# Altium schematic symbol library Connectors.SchLib: 81 symbols (part 1 of 2)
Pins are listed as number, name and electrical type; pins without a type are passive.

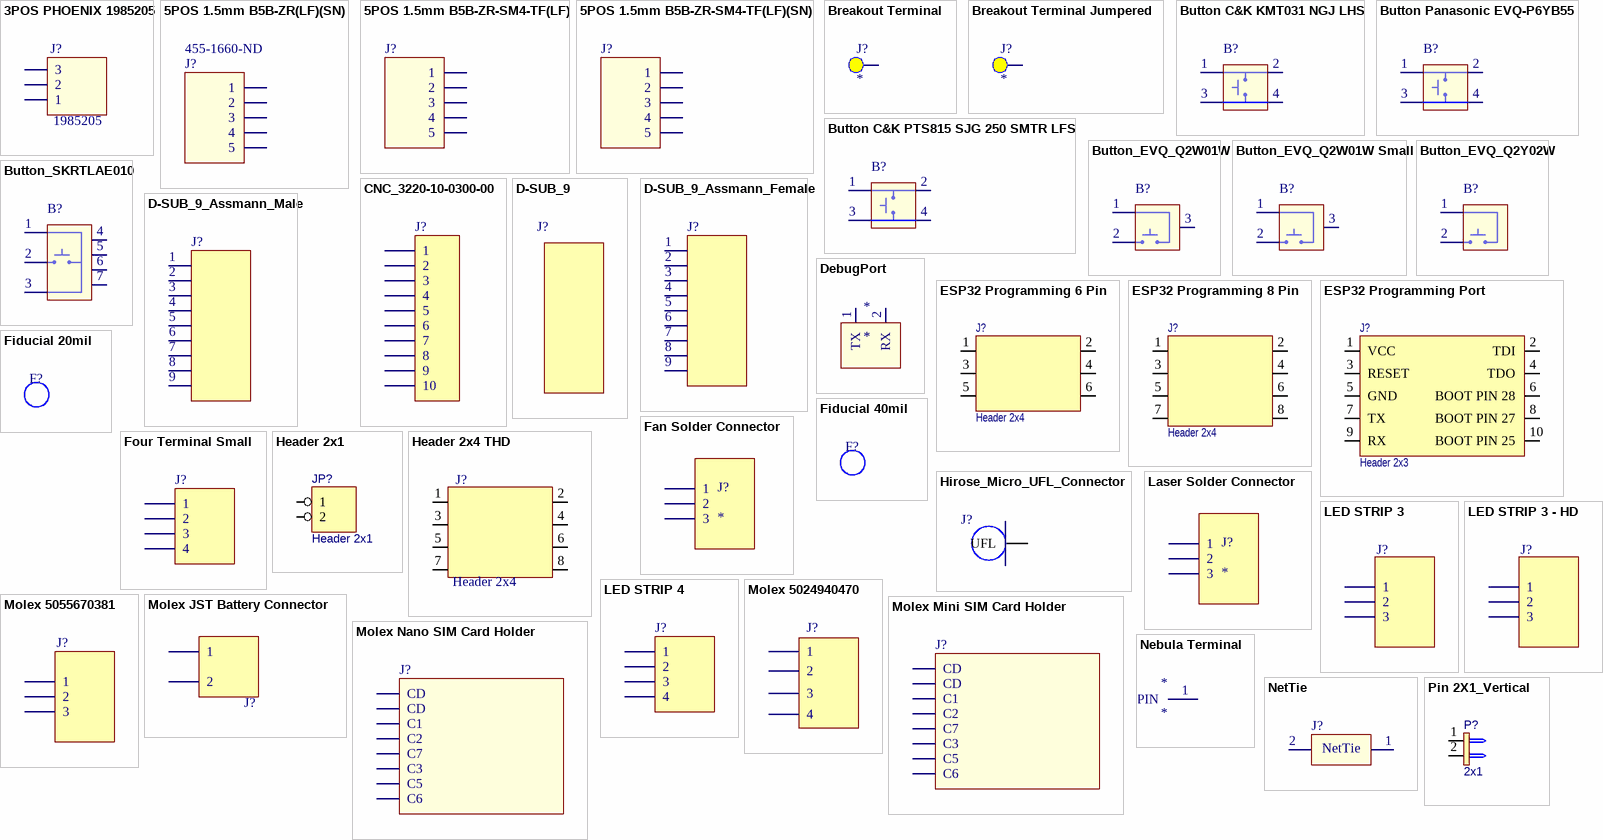
[diagram p0: symbols 3POS PHOENIX 1985205 to Pin 2X1_Vertical]

## 3POS PHOENIX 1985205
designator J?, comment 1985205
3POS,THD,TENSION CLAMP,PHOENIX CONTACT
pins: 1, 2, 3

## 5POS 1.5mm B5B-ZR(LF)(SN)
designator J?, comment Supplier Part Number 1: 455-1660-ND  (hidden comment: 5POS JST Connector)
Manufacturer Part Number: B5B-ZR(LF)(SN); No of Positions: 5; Pitch: 1.5 mm; Style/Orientation: Straight Header/Plug; Voltage Rating: 50 V; Current Rating: 1 A; No of Rows: 1; Gender: Male; Mating Type: Detent Lock; Insulation Resistance: 500 MΩ; Supplier 1: Digi-Key; Manufacturer: JST; Stock 1: 84969; Pricing 1: 1=0.26, 10=0.239, 100=0.1659, 500=0.1404, 1000=0.1149, 5000=0.1021, 10000=0.0925 (USD); Termination: Crimp; Operating Temp Range: -25 to +85 °C; Contact Material: Brass; Contact Plating: Tin; Material: Polyamide; Type: Shrouded Header; Color: Natural; ComponentLink1URL: http://www.jst-mfg.com/product/pdf/eng/eZH.pdf; ComponentLink1Description: http://www.jst-mfg.com/product/pdf/eng/eZH.pdf; ComponentLink2URL: https://www.verical.com/server-webapp/html/getDatasheet?partID=666189; ComponentLink2Description: https://www.verical.com/server-webapp/html/getDatasheet?partID=666189; ComponentLink3URL: http://uk.rs-online.com/webdocs/13ed/0900766b813ed0d3.pdf; ComponentLink3Description: http://uk.rs-online.com/webdocs/13ed/0900766b813ed0d3.pdf; ComponentLink4URL: http://uk.rs-online.com/webdocs/13f2/0900766b813f2e95.pdf; ComponentLink4Description: http://uk.rs-online.com/webdocs/13f2/0900766b813f2e95.pdf
pins: 1, 2, 3, 4, 5

## 5POS 1.5mm B5B-ZR-SM4-TF(LF)
designator J?, comment 5POS JST Connector  (value not drawn)
Surface Mount JST Connector
footprint B5B-ZR-SM4-TF(LF)
pins: 1, 2, 3, 4, 5

## 5POS 1.5mm B5B-ZR-SM4-TF(LF)(SN)
designator J?, comment 5POS JST Connector  (value not drawn)
Surface Mount JST Connector; Manufacturer Part Number: B5B-ZR-SM4TF(LF)(SN); Number of Contacts: 5; Pitch: 1.5mm; Body Orientation: Top Entry; Current Rating: 1A; Voltage Rating: 50 V ac/dc; Supplier 1: Digi-Key; Manufacturer: JST; Stock 1: 0; Number of Rows: 1; Type: Wire to Board; Termination Method: Solder; Series: ZH; Contact Material: Tin Plated Brass; ComponentLink1URL: http://uk.rs-online.com/webdocs/13ed/0900766b813ed0e4.pdf; ComponentLink1Description: http://uk.rs-online.com/webdocs/13ed/0900766b813ed0e4.pdf; Supplier Part Number 1: 455-1684-1-ND
footprint B5B-ZR-SM4-TF(LF)(SN)
pins: 1, 2, 3, 4, 5

## Breakout Terminal
designator J?
footprint Terminal
pins: 1

## Breakout Terminal Jumpered
designator J?
footprint Terminal
pins: 1

## Button C&K KMT031 NGJ LHS
designator B?  (value not drawn)
Tactile Push Button Top
pins: 1, 2, 3, 4

## Button C&K PTS815 SJG 250 SMTR LFS
designator B?  (value not drawn)
Push Button Top; Manufacturer: C&K Components; Manufacturer Part Number: PTS815 SJG 250 SMTR LFS; Supplier 1: Digi-Key; Stock 1: 0; ComponentLink1URL: http://datasheet.octopart.com/PTS815-SJG-250-SMTR-LFS-C%26K-Components-datasheet-130077068.pdf?src-supplier=Allied+Electronics; ComponentLink1Description: http://datasheet.octopart.com/PTS815-SJG-250-SMTR-LFS-C%26K-Components-datasheet-130077068.pdf?src-supplier=Allied+Electronics; Supplier Part Number 1: CKN12217-1-ND
footprint PTS 815 (Small Surface Mount Button)
pins: 1, 2, 3, 4

## Button Panasonic EVQ-P6YB55
designator B?  (value not drawn)
Tactile Push Button Top; Manufacturer: Panasonic; Manufacturer Part Number: EVQ-P6YB55; Maximum DC Voltage Rating: 15 V; Pole Throw Configuration: SPST; Switch Configuration: N.O.; Illumination Type: N/R; Ground Terminal: No; Electrical Life: 500000 Cycles; Body Orientation: Straight; Actuator Length: 0.15 mm; Maximum Contact Resistance: 500 mOhm; Operating Force: 2.4 N; Dielectric Strength: 250 VAC; Minimum Insulation Resistance: 50 MOhm; Contact Rating @ Voltage: 0.02@15VDC A; COO: MY; Supplier 1: Panasonic Industrial Devices; Stock 1: 38456; Pricing 1: 1=0.41, 10=0.394, 25=0.38, 50=0.366, 100=0.352, 250=0.3238, 500=0.2816, 1000=0.2394, 5000=0.2006 (USD); Part No: EVQ-P6YB55; RoHS: Yes; Supplier Standard Pack: 10,000; Type: Light Touch; Maximum AC Voltage Rating: N/A; Family: EVQP6; Contact Material: N/A; Actuator Color: N/A; Seal Description: N/A; Mechanical Life: N/A; Packaging: Embossed Tape; Contact Plating: N/A; Housing Material: N/A; Product Weight: N/A; Base Material: N/A; Mounting: Surface Mount,J-Bend; Seal Location: N/A; Actuator Style: Button; Operating Temperature: -20 to 70 C; Dimension: 4.1 x 4.3 x 0.58 mm; HTS: 8536509020; ECCN: EAR99; ComponentLink1URL: http://www.mouser.com/ds/2/315/ATK0000CE23-64167.pdf?src-supplier=Mouser; ComponentLink1Description: http://www.mouser.com/ds/2/315/ATK0000CE23-64167.pdf?src-supplier=Mouser; ComponentLink2URL: http://uk.rs-online.com/webdocs/10ad/0900766b810ad2e1.pdf?src-supplier=RSComponents; ComponentLink2Description: http://uk.rs-online.com/webdocs/10ad/0900766b810ad2e1.pdf?src-supplier=RSComponents; ComponentLink3URL: http://industrial.panasonic.com/www-data/pdf/ATK0000/ATK0000CE23.pdf?src-supplier=Future+Electronics; ComponentLink3Description: http://industrial.panasonic.com/www-data/pdf/ATK0000/ATK0000CE23.pdf?src-supplier=Future+Electronics; ComponentLink4URL: http://industrial.panasonic.com/cdbs/www-data/pdf/ATK0000/ATK0000CE23.pdf?src-supplier=Digi-Key; ComponentLink4Description: http://industrial.panasonic.com/cdbs/www-data/pdf/ATK0000/ATK0000CE23.pdf?src-supplier=Digi-Key; ComponentLink5URL: https://www3.panasonic.biz/ac/e_download/control/switch/light-touch/catalog/sw_lt_eng_4s.pdf?src-supplier=Digi-Key; ComponentLink5Description: https://www3.panasonic.biz/ac/e_download/control/switch/light-touch/catalog/sw_lt_eng_4s.pdf?src-supplier=Digi-Key; ComponentLink6URL: http://industrial.panasonic.com/www-data/pdf/ATK0000/ATK0000CE23.pdf?src-supplier=Avnet+Europe; ComponentLink6Description: http://industrial.panasonic.com/www-data/pdf/ATK0000/ATK0000CE23.pdf?src-supplier=Avnet+Europe; ComponentLink7URL: http://www.farnell.com/datasheets/1679727.pdf?src-supplier=Element14; ComponentLink7Description: http://www.farnell.com/datasheets/1679727.pdf?src-supplier=Element14; Supplier Part Number 1: P14169CT-ND
footprint EVQ-P6YB55 (Small Surface Mount Button)
pins: 1, 2, 3, 4

## Button_EVQ_Q2W01W
designator B?  (value not drawn)
Push Button Top; Manufacturer: Panasonic; Manufacturer Part Number: EVQ-Q2W01W; Actuator Color: White; Actuator Length: 0.2 mm; Body Orientation: Straight; Actuator Style: Round Button; Ground Terminal: Yes; Electrical Life: 200000 Cycles; Dielectric Strength: 250 VAC; Contact Rating @ Voltage: 0.02@15VDC A; Maximum DC Voltage Rating: 15 V; Pole Throw Configuration: SPST; Illumination Type: N/R; Maximum Contact Resistance: 100 mOhm; Operating Force: 2.6 N; Switch Configuration: N.O.; Supplier 1: Digi-Key; Stock 1: 18654; Pricing 1: 1=0.3, 10=0.286, 25=0.2752, 50=0.2652, 100=0.2549, 250=0.2345, 500=0.2039, 1000=0.1734 (USD); Contact Material: N/A; Base Material: N/A; Family: EVQQ2; Contact Plating: N/A; Housing Material: N/A; Dimension: 6 x 6.6 x 2 mm; Part No: EVQ-Q2W01W; RoHS: Yes; Maximum AC Voltage Rating: N/A; Seal Description: N/A; Mechanical Life: N/A; Packaging: Embossed Tape and Reel; Product Weight: N/A; Mounting: Surface Mount,J-Bend; Minimum Insulation Resistance: 100 MOhm; Operating Temperature: -40 to 85 C; Type: Light Touch; Seal Location: N/A; ComponentLink1URL: https://datasheet.ciiva.com/16695/atk0000ce28-16695900.pdf; ComponentLink1Description: https://datasheet.ciiva.com/16695/atk0000ce28-16695900.pdf; ComponentLink2URL: https://datasheet.ciiva.com/2899/atk0000ce28-2899501.pdf; ComponentLink2Description: https://datasheet.ciiva.com/2899/atk0000ce28-2899501.pdf; ComponentLink3URL: https://datasheet.ciiva.com/25603/0900766b810ad3e5-25603837.pdf; ComponentLink3Description: https://datasheet.ciiva.com/25603/0900766b810ad3e5-25603837.pdf; ComponentLink4URL: https://datasheet.ciiva.com/2899/atk0000ce28-2899502.pdf; ComponentLink4Description: https://datasheet.ciiva.com/2899/atk0000ce28-2899502.pdf; ComponentLink5URL: https://datasheet.ciiva.com/2899/atk0000ce28-2899503.pdf; ComponentLink5Description: https://datasheet.ciiva.com/2899/atk0000ce28-2899503.pdf; ComponentLink6URL: https://datasheet.ciiva.com/46401/578646-46401311.pdf; ComponentLink6Description: https://datasheet.ciiva.com/46401/578646-46401311.pdf; Supplier Part Number 1: P12956SCT-ND
footprint EVQ_Q2W01W (Panasonic Button)
pins: 1, 2, 3

## Button_EVQ_Q2W01W Small
designator B?  (value not drawn)
Push Button Top; Manufacturer: Panasonic; Manufacturer Part Number: EVQ-Q2W01W; Actuator Color: White; Actuator Length: 0.2 mm; Body Orientation: Straight; Actuator Style: Round Button; Ground Terminal: Yes; Electrical Life: 200000 Cycles; Dielectric Strength: 250 VAC; Contact Rating @ Voltage: 0.02@15VDC A; Maximum DC Voltage Rating: 15 V; Pole Throw Configuration: SPST; Illumination Type: N/R; Maximum Contact Resistance: 100 mOhm; Operating Force: 2.6 N; Switch Configuration: N.O.; Supplier 1: Digi-Key; Stock 1: 18654; Pricing 1: 1=0.3, 10=0.286, 25=0.2752, 50=0.2652, 100=0.2549, 250=0.2345, 500=0.2039, 1000=0.1734 (USD); Contact Material: N/A; Base Material: N/A; Family: EVQQ2; Contact Plating: N/A; Housing Material: N/A; Dimension: 6 x 6.6 x 2 mm; Part No: EVQ-Q2W01W; RoHS: Yes; Maximum AC Voltage Rating: N/A; Seal Description: N/A; Mechanical Life: N/A; Packaging: Embossed Tape and Reel; Product Weight: N/A; Mounting: Surface Mount,J-Bend; Minimum Insulation Resistance: 100 MOhm; Operating Temperature: -40 to 85 C; Type: Light Touch; Seal Location: N/A; ComponentLink1URL: https://datasheet.ciiva.com/16695/atk0000ce28-16695900.pdf; ComponentLink1Description: https://datasheet.ciiva.com/16695/atk0000ce28-16695900.pdf; ComponentLink2URL: https://datasheet.ciiva.com/2899/atk0000ce28-2899501.pdf; ComponentLink2Description: https://datasheet.ciiva.com/2899/atk0000ce28-2899501.pdf; ComponentLink3URL: https://datasheet.ciiva.com/25603/0900766b810ad3e5-25603837.pdf; ComponentLink3Description: https://datasheet.ciiva.com/25603/0900766b810ad3e5-25603837.pdf; ComponentLink4URL: https://datasheet.ciiva.com/2899/atk0000ce28-2899502.pdf; ComponentLink4Description: https://datasheet.ciiva.com/2899/atk0000ce28-2899502.pdf; ComponentLink5URL: https://datasheet.ciiva.com/2899/atk0000ce28-2899503.pdf; ComponentLink5Description: https://datasheet.ciiva.com/2899/atk0000ce28-2899503.pdf; ComponentLink6URL: https://datasheet.ciiva.com/46401/578646-46401311.pdf; ComponentLink6Description: https://datasheet.ciiva.com/46401/578646-46401311.pdf; Supplier Part Number 1: P12956SCT-ND
footprint EVQ_Q2W01W Small (Panasonic Button)
pins: 1, 2, 3

## Button_EVQ_Q2Y02W
designator B?  (value not drawn)
Nexus Button; Manufacturer: Panasonic; Manufacturer Part Number: EVQ-Q2Y02W; Actuator Color: White; Maximum DC Voltage Rating: 15 V; Pole Throw Configuration: SPST; Switch Configuration: N.O.; Illumination Type: N/R; Ground Terminal: No; Electrical Life: 100000 Cycles; Body Orientation: Straight; Actuator Length: 0.7 mm; Maximum Contact Resistance: 100 mOhm; Operating Force: 3.5 N; Actuator Style: Round Button; Dielectric Strength: 250 VAC; Contact Rating @ Voltage: 0.02@15VDC A; COO: MY; Supplier 1: Panasonic Industrial Devices; Stock 1: 1923; Pricing 1: 1=0.3, 10=0.286, 25=0.2752, 50=0.2652, 100=0.2549, 250=0.2345, 500=0.2039, 1000=0.1734 (USD); Part No: EVQ-Q2Y02W; RoHS: Yes; Type: Light Touch; Maximum AC Voltage Rating: N/A; Family: EVQQ2; Contact Material: N/A; Seal Description: N/A; Mechanical Life: N/A; Packaging: Embossed Tape and Reel; Contact Plating: N/A; Housing Material: N/A; Product Weight: N/A; Base Material: N/A; Mounting: Surface Mount,J-Bend; Seal Location: N/A; Minimum Insulation Resistance: 100 MOhm; Operating Temperature: -40 to 85 C; Dimension: 6 x 6.6 x 2.5 mm; HTS: 8536509020; ECCN: EAR99; ComponentLink1URL: http://www.farnell.com/datasheets/1913276.pdf?src-supplier=Element14; ComponentLink1Description: http://www.farnell.com/datasheets/1913276.pdf?src-supplier=Element14; ComponentLink2URL: https://industrial.panasonic.com/cdbs/www-data/pdf/ATK0000/ATK0000CE28.pdf?src-supplier=Digi-Key; ComponentLink2Description: https://industrial.panasonic.com/cdbs/www-data/pdf/ATK0000/ATK0000CE28.pdf?src-supplier=Digi-Key; ComponentLink3URL: http://www.farnell.com/datasheets/1913276.pdf?src-supplier=Farnell; ComponentLink3Description: http://www.farnell.com/datasheets/1913276.pdf?src-supplier=Farnell; ComponentLink4URL: https://www.alliedelec.com/m/d/b376c2e8f708a60a789c8bb312c8b2b8.pdf?src-supplier=Allied+Electronics; ComponentLink4Description: https://www.alliedelec.com/m/d/b376c2e8f708a60a789c8bb312c8b2b8.pdf?src-supplier=Allied+Electronics; ComponentLink5URL: http://industrial.panasonic.com/www-data/pdf/ATK0000/ATK0000CE28.pdf?src-supplier=Future+Electronics; ComponentLink5Description: http://industrial.panasonic.com/www-data/pdf/ATK0000/ATK0000CE28.pdf?src-supplier=Future+Electronics; Supplier Part Number 1: P12960SCT-ND
footprint EVQ_Q2Y02W (Panasonic Button)
pins: 1, 2

## Button_SKRTLAE010
designator B?  (value not drawn)
PUSH BUTTON Right Angle; Manufacturer: Alps Electric; Manufacturer Part Number: SKRTLAE010; Switch Configuration: N.O.; Pole Throw Configuration: SPST; Maximum Current Rating: 0.05@12VDC A; Maximum DC Voltage Rating: 12 V; Operating Force: 1.6 N; Rad Hard: No; TZOA PN: 204-00001; Supplier 1: Arrow; Stock 1: 2738; Pricing 1: 1=0.3642, 50=0.3458, 100=0.3286, 500=0.3138, 1000=0.3127, 1500=0.3108, 3000=0.3096 (USD); Packaging: Tape & Reel; Mounting: Surface Mount; ComponentLink1URL: https://datasheet.ciiva.com/16156/skrt-16156192.pdf; ComponentLink1Description: https://datasheet.ciiva.com/16156/skrt-16156192.pdf; ComponentLink2URL: https://datasheet.ciiva.com/18145/getdatasheetpartid-652316-18145868.pdf; ComponentLink2Description: https://datasheet.ciiva.com/18145/getdatasheetpartid-652316-18145868.pdf; Supplier Part Number 1: SKRTLAE010
footprint SKRTLAE010 (Small right angle button)
pins: 1, 2, 3, 4, 5, 6, 7

## CNC_3220-10-0300-00
designator J?  (value not drawn)
Manufacturer: CNC Tech; Manufacturer Part Number: 3220-10-0300-00; Connector Type: Header, Shrouded; Number of Positions: 10; Number of Positions Loaded: All; Pitch: 0.050" (1.27mm); Supplier 1: Digi-Key; Stock 1: 82884; Pricing 1: 1=0.61, 10=0.57, 100=0.437, 500=0.38, 1000=0.3135, 5000=0.2755, 10000=0.2565 (USD); Standard Package: 320; Category: Connectors, Interconnects; Family: Rectangular Connectors - Headers, Male Pins; Contact Type: Male Pin; Number of Rows: 2; Row Spacing: 0.050" (1.27mm); Mounting Type: Surface Mount; Termination: Solder; Contact Finish: Gold; Contact Finish Thickness: Flash; Packaging: Tray; ComponentLink1URL: https://datasheet.ciiva.com/18655/3220-xx-0300-00-18655365.pdf; ComponentLink1Description: https://datasheet.ciiva.com/18655/3220-xx-0300-00-18655365.pdf; Supplier Part Number 1: 1175-1629-ND
footprint 3220-10-0300-00
pins: 1, 2, 3, 4, 5, 6, 7, 8, 9, 10

## D-SUB_9
designator J?  (value not drawn)
Right angle D-Sub connector 9 Pin; Manufacturer: Amphenol FCI; Manufacturer Part Number: LD09S13A4GX00LF; Supplier 1: Digi-Key; Stock 1: 1770; Pricing 1: 1=0.98, 10=0.863, 25=0.8128, 50=0.7788, 100=0.7449, 250=0.6772, 500=0.6095, 1000=0.5418, 2500=0.491 (USD); Category: Connectors, Interconnects; Family: D-Sub Connectors; Series: *; ComponentLink1URL: http://portal.fciconnect.com/Comergent//fci/drawing/10130913.pdf; ComponentLink1Description: http://portal.fciconnect.com/Comergent//fci/drawing/10130913.pdf; Supplier Part Number 1: 609-5189-ND

## D-SUB_9_Assmann_Female
designator J?  (value not drawn)
Right angle D-Sub connector 9 Pin; Supplier Part Number 1: AE10921-ND
footprint DB9 Female Polarity (Assmann)
pins: 1, 2, 3, 4, 5, 6, 7, 8, 9

## D-SUB_9_Assmann_Male
designator J?  (value not drawn)
Right angle D-Sub connector 9 Pin; Supplier Part Number 1: AE10968-ND
footprint DB9 Male Polarity (Assmann)
pins: 1, 2, 3, 4, 5, 6, 7, 8, 9

## DebugPort
designator *
footprint Header 2x1
pins: 1 TX, 2 RX

## ESP32 Programming 6 Pin
designator J?, comment Header 2x4  (no BOM)
footprint ESP32 6 PIN
pins: 1, 2, 3, 4, 5, 6

## ESP32 Programming 8 Pin
designator J?, comment Header 2x4  (no BOM)
footprint ESP32 SMALL
pins: 1, 2, 3, 4, 5, 6, 7, 8

## ESP32 Programming Port
designator J?, comment Header 2x3  (no BOM)
footprint ESP32 Large
pins: 1 VCC, 2 TDI, 3 RESET, 4 TDO, 5 GND, 6 BOOT PIN 28, 7 TX, 8 BOOT PIN 27, 9 RX, 10 BOOT PIN 25

## Fan Solder Connector
designator J?  (no BOM)
footprint Laser Solder
pins: 1, 2, 3

## Fiducial 20mil
designator F?  (value not drawn)
footprint Fiducial 20mil
pins: 1

## Fiducial 40mil
designator F?  (value not drawn)  (no BOM)
footprint Fiducial 40mil
pins: 1

## Four Terminal Small
designator J?  (value not drawn)
footprint Solder Small 4 Pos
pins: 1, 2, 3, 4

## Header 2x1
designator JP?
footprint HDR-2X1_V
pins: 1, 2

## Header 2x4 THD
designator J?, comment Header 2x4
Supplier 1: Digi-Key; Supplier Part Number 1: S7072-ND
footprint HEADER 8POS THD (0.100" [2.54mm])
pins: 1, 2, 3, 4, 5, 6, 7, 8

## Hirose_Micro_UFL_Connector
designator J?  (value not drawn)
Manufacturer: Hirose; Manufacturer Part Number: U.FL-R-SMT(10); Product Training Modules: U.FL and W.FL Series Connectors; Catalog Drawings: UFL Receptacle Bottom; Featured Product: U.FL Series Connectors; Connector Style: U.FL, Ultra Miniature Coaxial; Connector Type: Receptacle, Male Pin; Contact Termination: Solder; Impedance: 50 Ohm; Frequency - Max: 6GHz; Body Material: Phosphor Bronze; Body Finish: Silver; Center Contact Material: Brass; Center Contact Plating: Gold; Dielectric Material: Liquid Crystal Polymer (LCP); Online Catalog: UMCC (Ultra Miniature Coax Connectors), U.FL Series; Other Names: H9161DKR; Supplier 1: Digi-Key; Stock 1: 266771; Pricing 1: 1=1.31, 10=1.15, 25=1.0824, 50=1.0374, 100=0.9922, 250=0.902, 500=0.8118, 1000=0.7216 (USD); Standard Package: 1; Category: Connectors, Interconnects; Family: Coaxial Connectors (RF); Series: U.FL; Packaging: Digi-Reel®; Shield Termination: Solder; Mounting Type: Surface Mount; Cable Group: -; Fastening Type: Snap-On; Features: -; Housing Color: Beige; Ingress Protection: -; Voltage Rating: -; Operating Temperature: -40°C ~ 90°C; ComponentLink1URL: https://datasheet.ciiva.com/15173/getdatasheetpartid-449682-15173227.pdf; ComponentLink1Description: https://datasheet.ciiva.com/15173/getdatasheetpartid-449682-15173227.pdf; Supplier Part Number 1: H9161CT-ND
footprint U.FL-R-SMT
pins: 1 UFL, 2, 3 2

## Laser Solder Connector
designator J?
footprint Laser Solder
pins: 1, 2, 3

## LED STRIP 3
designator J?  (value not drawn)
footprint LED SOLDER 3
pins: 1, 2, 3

## LED STRIP 3 - HD
designator J?  (value not drawn)
footprint LED SOLDER 3 - High Density
pins: 1, 2, 3

## LED STRIP 4
designator J?  (value not drawn)
footprint LED SOLDER 4
pins: 1, 2, 3, 4

## Molex 5024940470
designator J?  (value not drawn)
Molex 5024940470
pins: 1, 2, 3, 4

## Molex 5055670381
designator J?  (value not drawn)
Manufacturer: Molex; Manufacturer Part Number: 5055670381; Categories: Connectors, Interconnects; Connector Type: Header; Pitch - Mating: 0.049 (1.25mm); Number of Positions: 3; Number of Positions Loaded: All; Style: Board to Cable/Wire; Shrouding: Shrouded - 4 Wall; Material Flammability Rating: UL94 V-0; Supplier 1: Digi-Key; Stock 1: 17650; Pricing 1: 1=0.86, 10=0.76, 100=0.6556, 500=0.5364 (USD); Series: Micro-Lock PLUS 505567; Packaging: Tape & Reel (TR); Part Status: Active; Contact Type: Male Pin; Number of Rows: 1; Row Spacing - Mating: -; Mounting Type: Surface Mount, Right Angle; Termination: Solder; Fastening Type: Locking Ramp; Contact Length - Mating: -; Contact Length - Post: -; Overall Contact Length: -; Insulation Height: 0.154 (3.90mm); Contact Shape: Square; Contact Finish - Mating: Gold; Contact Finish Thickness - Mating: 3.90µin (0.099µm); Contact Finish - Post: Gold; Contact Material: Brass; Insulation Material: Polyamide (PA), Nylon, Glass Filled; Features: Pick and Place, Solder Retention; Operating Temperature: -40°C ~ 105°C; Ingress Protection: -; Insulation Color: Black; Supplier Part Number 1: WM22227CT-ND
footprint Molex 5055670381 (3 Position Latching Wire To Board Connector)
pins: 1, 2, 3

## Molex JST Battery Connector
designator J?  (value not drawn)
Manufacturer: Molex; Manufacturer Part Number: 0530480210; Connector Type: Header, Shrouded; Number of Positions: 2; Number of Positions Loaded: All; Pitch: 0.049" (1.25mm); Supplier 1: Digi-Key; Stock 1: 47982; Pricing 1: 1=0.41, 10=0.387, 100=0.271, 500=0.2323, 1000=0.1936, 5000=0.1659, 10000=0.1548 (USD); Category: Connectors, Interconnects; Family: Rectangular Connectors - Headers, Male Pins; Series: PicoBlade™ 53048; Packaging: Tray; Contact Type: Blade Pin; Number of Rows: 1; Row Spacing: -; Contact Mating Length: -; Mounting Type: Through Hole, Right Angle; Termination: Solder; Fastening Type: -; Features: -; Contact Finish: Tin; Contact Finish Thickness: -; Color: Natural; ComponentLink1URL: http://www.molex.com/webdocs/datasheets/pdf/en-us/0530480210_PCB_HEADERS.pdf; ComponentLink1Description: http://www.molex.com/webdocs/datasheets/pdf/en-us/0530480210_PCB_HEADERS.pdf; ComponentLink2URL: https://www.molex.com/pdm_docs/sd/530480210_sd.pdf; ComponentLink2Description: https://www.molex.com/pdm_docs/sd/530480210_sd.pdf; Supplier Part Number 1: WM1742-ND
footprint Molex 0530480210
pins: 1, 2

## Molex Mini SIM Card Holder
designator J?  (value not drawn)
Manufacturer: Molex; Manufacturer Part Number: 47553-2001; Part # Aliases: 0475532001; Card Type: SIM; Pitch: 1.27 mm; Number of Contacts: 6; Current Rating: 500 mA; Voltage Rating: 50 VDC; Insertion - Extraction Style: Push-Push; Supplier 1: Digi-Key; Stock 1: 20157; Pricing 1: 1=2.66, 10=2.552, 25=2.3396, 50=2.233, 100=2.1267, 250=1.8609 (USD); Mounting Style: SMD/SMT; Product Category: Memory Card Connectors; RoHS: Details; Brand: Molex; Product: Card Holders; Orientation: Horizontal; Termination Style: SMD; Contact Material: Copper Alloy; Housing Material: Thermoplastic; Packaging: Reel; Series: 47553; Factory Pack Quantity: 1200; ComponentLink1URL: http://www.mouser.com/ds/2/276/0475532001_MEMORY_CARD_SOCKET-146272.pdf; ComponentLink1Description: http://www.mouser.com/ds/2/276/0475532001_MEMORY_CARD_SOCKET-146272.pdf; ComponentLink2URL: http://www.molex.com/webdocs/datasheets/pdf/en-us/0475532001_MEMORY_CARD_SOCKET.pdf; ComponentLink2Description: http://www.molex.com/webdocs/datasheets/pdf/en-us/0475532001_MEMORY_CARD_SOCKET.pdf; Supplier Part Number 1: WM9889CT-ND
footprint Molex SIM Card 0475532001 (High quality push in push out Mini SIM card holder SMT)
pins: 1 C1, 2 C5, 3 C2, 4 C6, 5 C3, 6 C7, 7 CD, 8 CD

## Molex Nano SIM Card Holder
designator J?  (value not drawn)
Manufacturer: Molex; Manufacturer Part Number: 504520-0691; Card Type: NANO SIM; Number of Positions: 6; Connector Type: Connector and Ejector; Insertion, Removal Method: Push In, Push Out; Supplier 1: Digi-Key; Stock 1: 5877; Pricing 1: 1=2.65, 10=2.401, 25=2.254, 50=2.156, 100=2.058, 250=1.862, 500=1.715 (USD); Category: Connectors, Interconnects; Family: Memory Connectors - PC Card Sockets; Series: 504520; Packaging: Tape & Reel (TR); Ejector Side: -; Mounting Type: Surface Mount, Right Angle; Features: Switch; Height Above Board: 0.051" (1.30mm); Mounting Feature: Normal, Standard - Top; Contact Finish: Gold; Contact Finish Thickness: -; Supplier Part Number 1: WM12731CT-ND
footprint Molex Nano Sim 5045200691 (Very small nano sim card holder Push In / Push Out)
pins: 1 C1, 2 C5, 3 C2, 4 C6, 5 C3, 6 C7, 7 CD, 8 CD

## Nebula Terminal
designator *
footprint Nebula Pad
pins: 1 PIN (power)

## NetTie
designator J?  (value not drawn)  (net tie, no BOM)
footprint NetTie
pins: 1, 2

## Pin 2X1_Vertical
designator P?, comment 2x1
Conn,Stp,0.100",2 Posn Ml,PCB Mnt Hdr,Lk; Manufacturer: Samtec; Manufacturer P/N: TSW-102-07-G-S (CSA,ULR); P/N: 540-035-19; Created By: Peter Fistin; Created Date: 12-10-2015; Fast Supplier: Digi-Key; Fast Supplier P/N: SAM8736-ND
footprint HDR-2X1_VERTICAL
pins: 1, 2

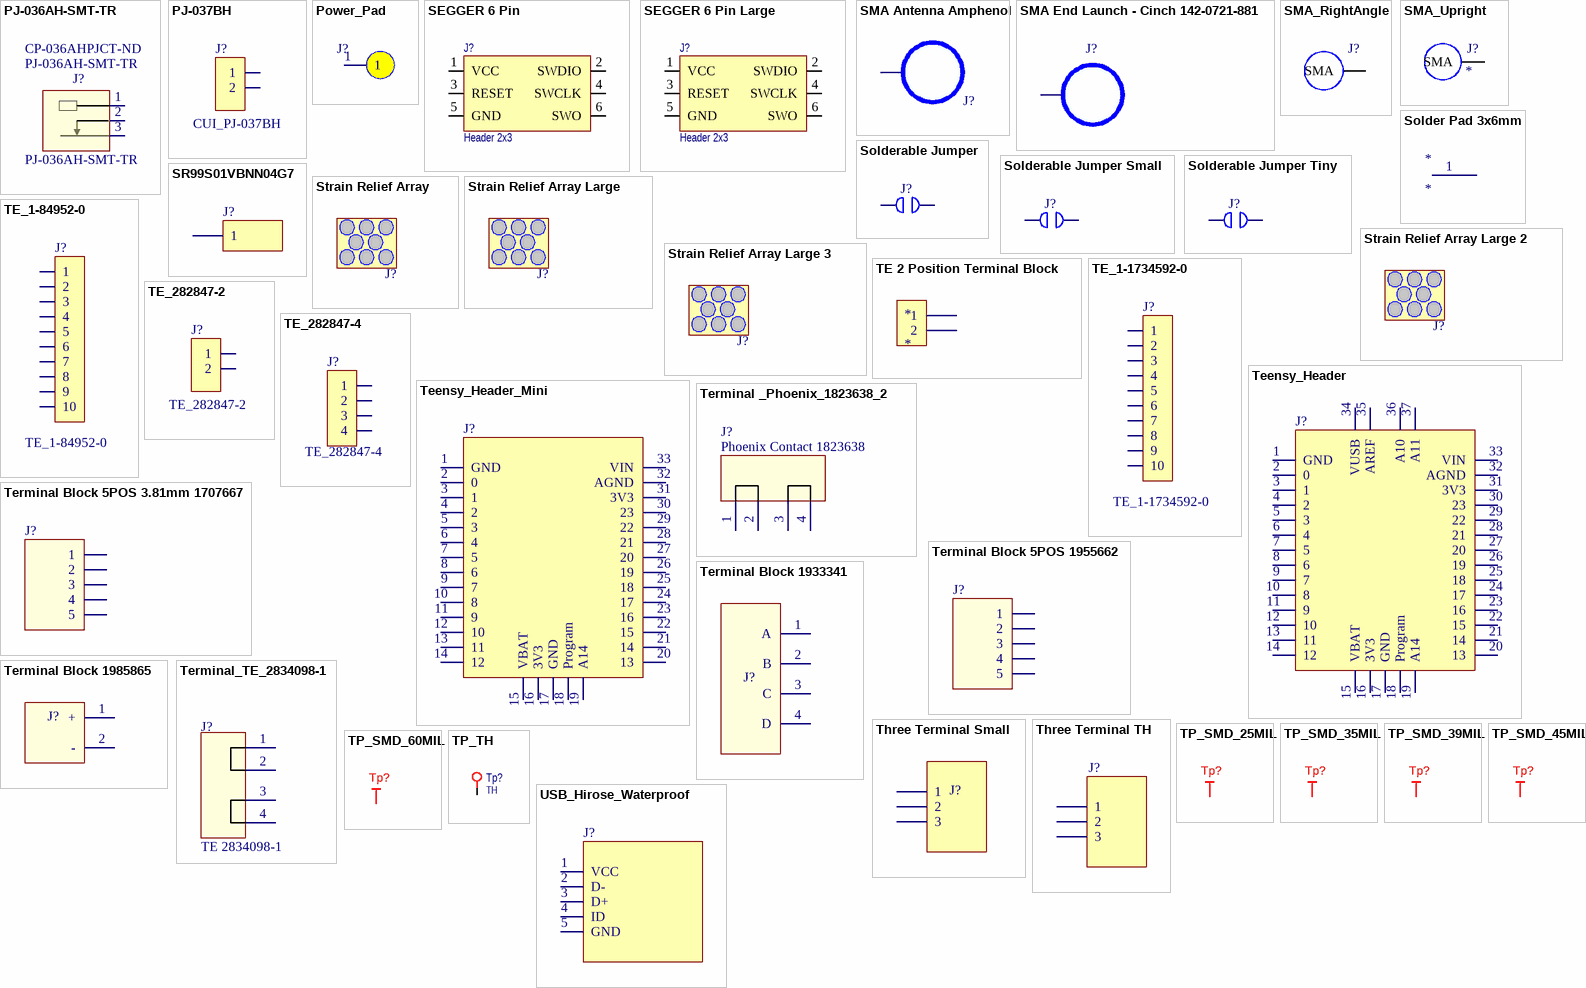
[diagram p1: symbols PJ-036AH-SMT-TR to USB_Hirose_Waterproof]

## PJ-036AH-SMT-TR
designator J?  Supplier Part Number 2: CP-036AHPJCT-ND
Male Barrel Jack 2.1mm ID; Supplier 1: Arrow; Supplier 2: Digi-Key; Supplier Part Number 1: PJ-036AH-SMT-TR
footprint PJ-036AH-SMT-TR (2.1mm ID Barrel Jack)
pins: 1 V+ (power), 2 V- (power), 3 SW

## PJ-037BH
designator J?, comment CUI_PJ-037BH
2.5mm Right Angle DC Power Jack; Manufacturer: CUI; Outside Contact Diameter: 6.5 mm; Current Rating: 5 A; Voltage Rating: 24 V; Insulation Resistance: 100 MOhms; Supplier 1: Digi-Key; Manufacturer Part Number: PJ-037BH; Stock 1: 2912; Pricing 1: 1=0.71, 10=0.666, 25=0.5996, 50=0.5328, 100=0.5106, 250=0.4662, 500=0.444, 1000=0.3663, 2500=0.333 (USD); Product Category: DC Power Connectors; RoHS: True; Product: Jacks; Inside Contact Diameter: 2.5 mm; Mounting Style: Through Hole; Termination Style: Through Hole; Mounting Angle: Right; Brand: CUI; Connector Type: DC Power Jack; Contact Gender: Male; Contact Material: Copper; Contact Plating: Nickel; Flammability Rating: UL 94 V-0; Housing Material: Polybutylene Terephthalate (PBT); Operating Temperature Range: - 25 C to + 85 C; Packaging: Bulk; Factory Pack Quantity: 500; ComponentLink1URL: http://www.mouser.com/ds/2/670/pj-037bh-515869.pdf; ComponentLink1Description: http://www.mouser.com/ds/2/670/pj-037bh-515869.pdf; ComponentLink2URL: http://www.cui.com/product/resource/digikeypdf/pj-037bh.pdf; ComponentLink2Description: http://www.cui.com/product/resource/digikeypdf/pj-037bh.pdf; ComponentLink3URL: http://www.cui.com/Product/Resource/FuturePDF/PJ-037BH.pdf; ComponentLink3Description: http://www.cui.com/Product/Resource/FuturePDF/PJ-037BH.pdf; Supplier Part Number 1: CP-037BH-ND
footprint CUI PJ-037BH (2.5mm DC Power Jack)
pins: 1, 2

## Power_Pad
designator J?  (value not drawn)
footprint Power Pad
pins: 1

## SEGGER 6 Pin
designator J?, comment Header 2x3  (no BOM)
footprint SEGGER 6 PIN
pins: 1 VCC, 2 SWDIO, 3 RESET, 4 SWCLK, 5 GND, 6 SWO

## SEGGER 6 Pin Large
designator J?, comment Header 2x3  (no BOM)
footprint SEGGER 6 PIN Large
pins: 1 VCC, 2 SWDIO, 3 RESET, 4 SWCLK, 5 GND, 6 SWO

## SMA Antenna Amphenol
designator J?  (value not drawn)
Manufacturer: Amphenol Connex; Manufacturer Part Number: 132136; Connector Style: SMA; Connector Type: Jack, Female Socket; Contact Termination: Solder; Impedance: 50 Ohm; Frequency - Max: 12.4GHz; Body Material: Brass; Body Finish: Gold; Center Contact Material: Beryllium Copper; Dielectric Material: Polytetrafluoroethylene (PTFE); Associated Product: ACX1250-ND                                                          - CONN CAP (COVER) FOR SMA JACKS                                                     ACX2070-ND                                                          - CONN CAP CVR SHORT FOR SMA JACK                                                     ACX1434-ND                                                          - CONN CAP (COVER) FOR SMA JACKS                                                     132364-ND                                                          - CONN CAP (COVER) FOR SMA JACKS; Other Names: ACX1232; Supplier 1: Digi-Key; Stock 1: 7611; Pricing 1: 1=7.54, 10=7.222, 25=6.594, 50=6.28, 100=5.966, 250=5.338, 500=5.024, 1000=4.396 (USD); Standard Package: 1; Category: Connectors, Interconnects; Family: Coaxial Connectors (RF); Series: -; Packaging: Bulk; Shield Termination: Solder; Mounting Type: Through Hole, Right Angle; Cable Group: -; Fastening Type: Threaded; Features: -; Housing Color: Gold; Ingress Protection: -; Center Contact Plating: Gold; Voltage Rating: -; Operating Temperature: -65°C ~ 165°C; Online Catalog: SMA; ComponentLink1URL: http://www.amphenolrf.com/media/downloads/211/132136.PDF; ComponentLink1Description: http://www.amphenolrf.com/media/downloads/211/132136.PDF; ComponentLink2URL: http://www.farnell.com/datasheets/1510258.pdf; ComponentLink2Description: http://www.farnell.com/datasheets/1510258.pdf; Supplier Part Number 1: ACX1232-ND
footprint Amphenol 132136 (Right angle through hole SMA antenna connector)
pins: 1

## SMA End Launch - Cinch 142-0721-881
designator J?  (value not drawn)
Manufacturer: Bel Cinch; Manufacturer Part Number: 142-0721-881; Angle: Straight; Color, Housing: Gold; Frequency: 18GHz; Impedance: 50 Ohm; Material, Contact: Beryllium Copper; Material, Dielectric: TFE; Material, Housing: Brass; Primary Type: SMA; Standards: MIL-C-39012; Voltage Rating: 335 V; Supplier 1: Digi-Key; Stock 1: 0; Contact Plating: Gold; Finish, Housing: Gold; Length: 0.44" (11.176mm); Mounting Type: Board Edge Mount; Packaging: Bulk; Termination: Solder; Type: PCB Jack; Supplier Part Number 1: J631-ND
pins: 1

## SMA_RightAngle
designator J?  (value not drawn)
Manufacturer: TE Connectivity; Manufacturer Part Number: 5-1814400-1; Connector Type: SMA Coaxial; Connector Body Style: Right Angle Jack; Coaxial Termination: Solder; Impedance: 50ohm; Frequency Max: 3GHz; Connector Mounting: PCB Mount; Product Range: ZDC Series; SVHC: No SVHC (15-Jun-2015); Supplier 1: Digi-Key; Stock 1: 22490; Pricing 1: 1=2.55, 10=2.448, 25=2.244, 50=2.142, 100=2.04, 250=1.785, 500=1.734, 1000=1.479, 2500=1.377 (USD); Coaxial Cable Types: -; Contact Material: Beryllium Copper; Contact Plating: Gold Plated Contacts; ComponentLink1URL: https://datasheet.ciiva.com/25908/eng-cd-1814400-c1-25908579.pdf; ComponentLink1Description: https://datasheet.ciiva.com/25908/eng-cd-1814400-c1-25908579.pdf; ComponentLink2URL: https://datasheet.ciiva.com/14567/70084631-14567190.pdf; ComponentLink2Description: https://datasheet.ciiva.com/14567/70084631-14567190.pdf; ComponentLink3URL: https://datasheet.ciiva.com/642/eng-cd-1814400-d-basefilename-642807.pdf; ComponentLink3Description: https://datasheet.ciiva.com/642/eng-cd-1814400-d-basefilename-642807.pdf; ComponentLink4URL: https://datasheet.ciiva.com/3131/eng-cd-1814400-c1-3131994.pdf; ComponentLink4Description: https://datasheet.ciiva.com/3131/eng-cd-1814400-c1-3131994.pdf; ComponentLink5URL: https://datasheet.ciiva.com/11762/0900766b80944169-11762331.pdf; ComponentLink5Description: https://datasheet.ciiva.com/11762/0900766b80944169-11762331.pdf; ComponentLink6URL: https://datasheet.ciiva.com/5717/eng-cd-1814400-d-basefilename-5717965.pdf; ComponentLink6Description: https://datasheet.ciiva.com/5717/eng-cd-1814400-d-basefilename-5717965.pdf; ComponentLink7URL: https://datasheet.ciiva.com/16226/5-1814400-1-16226909.pdf; ComponentLink7Description: https://datasheet.ciiva.com/16226/5-1814400-1-16226909.pdf; ComponentLink8URL: https://datasheet.ciiva.com/23769/1663573-23769679.pdf; ComponentLink8Description: https://datasheet.ciiva.com/23769/1663573-23769679.pdf; Supplier Part Number 1: A97593-ND
footprint TE_5-1814400-1 RA (SMA Right Angle)
pins: 1 SMA

## SMA_Upright
designator J?
Supplier 1: Arrow; Supplier 2: Digi-Key; Supplier Part Number 1: 73391-0070; Supplier Part Number 2: WM5544-ND
footprint TE_5-1814400-1 Upright (SMA Upright)
pins: 1 SMA

## Solder Pad 3x6mm
designator *
pins: 1

## Solderable Jumper
designator J?  (value not drawn)  (no BOM)
footprint Solderable Jumper
pins: 1, 2

## Solderable Jumper Small
designator J?  (value not drawn)  (no BOM)
footprint Solderable Jumper Small
pins: 1, 2

## Solderable Jumper Tiny
designator J?  (value not drawn)  (no BOM)
footprint Solderable Jumper Tiny
pins: 1, 2

## SR99S01VBNN04G7
designator J?  (value not drawn)
Metz Finger Spring Connector 1 POS
footprint METZ SR99 (Quick connect spring terminal)
pins: 1

## Strain Relief Array
designator J?  (value not drawn)
footprint Strain Relief

## Strain Relief Array Large
designator J?  (value not drawn)
footprint Strain Relief Big Pitch

## Strain Relief Array Large 2
designator J?  (value not drawn)
footprint Strain Relief Big Pitch 2

## Strain Relief Array Large 3
designator J?  (value not drawn)
footprint Strain Relief Big Pitch 3

## TE 2 Position Terminal Block
designator *
Supplier 1: Digi-Key; Supplier Part Number 1: A112762-ND
footprint TE 1776253-2 (2 Position Terminal Block)
pins: 1, 2

## TE_1-84952-0
designator J?
FFC, SMT, 10-Pos, 35Deg, 5.08mm; Manufacturer: TE Connectivity; Catalog Drawings: FPC Connector-Rt Angl-10 Position; 3D Model: 1-84952-0.pdf; Connector Type: Bottom Contacts; Number of Positions: 10; Pitch: 0.039" (1.00mm); FFC, FCB Thickness: 0.30mm; Cable End Type: Straight; Locking Feature: Slide Lock; Current Rating: 1.00A; Voltage Rating: 200V; Dynamic Catalog: 1734248, 84952 and 84953; Other Names: A100250CT; Supplier 1: Digi-Key; Manufacturer Part Number: 1-84952-0; Stock 1: 10302; Pricing 1: 1=1.03, 10=0.91, 25=0.856, 50=0.8204, 100=0.7847, 250=0.7134, 500=0.642 (USD); RoHS Information: 1-84952-0 Statement of Compliance; Standard Package: 1; Category: Connectors, Interconnects; Family: FFC, FPC (Flat Flexible) Connectors - Board Mount; Height Above Board: 0.101" (2.56mm); Mounting Type: Surface Mount, Right Angle; Termination: Solder; Features: Solder Retention, Zero Insertion Force (ZIF); Packaging: Cut Tape (CT); Contact Finish: Tin; Contact Finish Thickness: 78.7µin (2.00µm); Operating Temperature: -40°C ~ 85°C; Housing Material: Liquid Crystal Polymer (LCP), Glass Filled; ComponentLink1URL: https://datasheet.ciiva.com/14483/eng-cd-84952-a4-14483301.pdf; ComponentLink1Description: https://datasheet.ciiva.com/14483/eng-cd-84952-a4-14483301.pdf; ComponentLink2URL: https://datasheet.ciiva.com/16546/eng-ds-1-1773440-6-0506-16546822.pdf; ComponentLink2Description: https://datasheet.ciiva.com/16546/eng-ds-1-1773440-6-0506-16546822.pdf; ComponentLink3URL: https://datasheet.ciiva.com/669/eng-cd-84952-a4-669129.pdf; ComponentLink3Description: https://datasheet.ciiva.com/669/eng-cd-84952-a4-669129.pdf; ComponentLink4URL: https://datasheet.ciiva.com/669/eng-cd-84952-a4-669130.pdf; ComponentLink4Description: https://datasheet.ciiva.com/669/eng-cd-84952-a4-669130.pdf; ComponentLink5URL: https://datasheet.ciiva.com/11745/0900766b806c626e-11745146.pdf; ComponentLink5Description: https://datasheet.ciiva.com/11745/0900766b806c626e-11745146.pdf; ComponentLink6URL: https://datasheet.ciiva.com/669/eng-cd-84952-a4-669131.pdf; ComponentLink6Description: https://datasheet.ciiva.com/669/eng-cd-84952-a4-669131.pdf; ComponentLink7URL: https://datasheet.ciiva.com/1437/eng-cd-84952-a4-1437388.pdf; ComponentLink7Description: https://datasheet.ciiva.com/1437/eng-cd-84952-a4-1437388.pdf; ComponentLink8URL: https://datasheet.ciiva.com/1437/eng-cd-84952-a4-1437389.pdf; ComponentLink8Description: https://datasheet.ciiva.com/1437/eng-cd-84952-a4-1437389.pdf; Supplier Part Number 1: A100250CT-ND
footprint TE_1-84952-0
pins: 1, 2, 3, 4, 5, 6, 7, 8, 9, 10

## TE_1-1734592-0
designator J?
FFC, SMT, 10-Pos, 35Deg, 5.08mm; Manufacturer: TE Connectivity; Catalog Drawings: FPC Connector-Rt Angl-10 Positions; 3D Model: 1-1734592-0.pdf; Connector Type: Bottom Contacts; Number of Positions: 10; Pitch: 0.020" (0.50mm); FFC, FCB Thickness: 0.30mm; Cable End Type: Straight; Locking Feature: Flip Lock; Current Rating: 0.500A; Voltage Rating: 250V; Dynamic Catalog: 1734592, 1734742 and 1734839; Other Names: A100282CT; Supplier 1: Digi-Key; Manufacturer Part Number: 1-1734592-0; Stock 1: 3837; Pricing 1: 1=0.71, 10=0.669, 25=0.602, 50=0.535, 100=0.5127, 250=0.4682, 500=0.4459, 1000=0.3678 (USD); RoHS Information: 1-1734592-0 Statement of Compliance; Standard Package: 1; Category: Connectors, Interconnects; Family: FFC, FPC (Flat Flexible) Connectors - Board Mount; Height Above Board: 0.081" (2.05mm); Mounting Type: Surface Mount, Right Angle; Termination: Solder; Features: Zero Insertion Force (ZIF); Packaging: Cut Tape (CT); Contact Finish: Gold; Contact Finish Thickness: Flash; Operating Temperature: -40°C ~ 125°C; Housing Material: Liquid Crystal Polymer (LCP); ComponentLink1URL: https://datasheet.ciiva.com/672/eng-cd-1734592-c-c-1734592-672640.pdf; ComponentLink1Description: https://datasheet.ciiva.com/672/eng-cd-1734592-c-c-1734592-672640.pdf; ComponentLink2URL: https://datasheet.ciiva.com/672/eng-cd-1734592-c-c-1734592-672641.pdf; ComponentLink2Description: https://datasheet.ciiva.com/672/eng-cd-1734592-c-c-1734592-672641.pdf; ComponentLink3URL: https://datasheet.ciiva.com/672/eng-cd-1734592-c-c-1734592-672642.pdf; ComponentLink3Description: https://datasheet.ciiva.com/672/eng-cd-1734592-c-c-1734592-672642.pdf; ComponentLink4URL: https://datasheet.ciiva.com/3114/eng-ds-1-1773440-6-0506-3114183.pdf; ComponentLink4Description: https://datasheet.ciiva.com/3114/eng-ds-1-1773440-6-0506-3114183.pdf; ComponentLink5URL: https://datasheet.ciiva.com/16546/eng-ds-1-1773440-6-0506-16546759.pdf; ComponentLink5Description: https://datasheet.ciiva.com/16546/eng-ds-1-1773440-6-0506-16546759.pdf; ComponentLink6URL: https://datasheet.ciiva.com/1437/586796-1437306.pdf; ComponentLink6Description: https://datasheet.ciiva.com/1437/586796-1437306.pdf; ComponentLink7URL: https://datasheet.ciiva.com/1437/586796-1437307.pdf; ComponentLink7Description: https://datasheet.ciiva.com/1437/586796-1437307.pdf; ComponentLink8URL: https://datasheet.ciiva.com/16300/eng-ds-1-1773440-6-0506-16300844.pdf; ComponentLink8Description: https://datasheet.ciiva.com/16300/eng-ds-1-1773440-6-0506-16300844.pdf; ComponentLink9URL: https://datasheet.ciiva.com/30155/eng-ds-1-1773440-6-0506-30155420.pdf; ComponentLink9Description: https://datasheet.ciiva.com/30155/eng-ds-1-1773440-6-0506-30155420.pdf; ComponentLink10URL: https://datasheet.ciiva.com/11745/0900766b808a40f6-11745006.pdf; ComponentLink10Description: https://datasheet.ciiva.com/11745/0900766b808a40f6-11745006.pdf; Supplier Part Number 1: A100282CT-ND
footprint TE_1-1734592-0
pins: 1, 2, 3, 4, 5, 6, 7, 8, 9, 10

## TE_282847-2
designator J?
TB, TH, 4-Pos, 35Deg, 5.08mm; Manufacturer: TE Connectivity (Tyco Electronics); Manufacturer Part Number: 1-282847-2; Product Training Modules: Wire-to-Board Eurostyle Terminal Blocks; Featured Product: Eurostyle Terminal Block Connectors; 3D Model: 1-282847-2.pdf; Number of Levels: 1; Positions Per Level: 12; Pitch: 0.200" (5.08mm); Mating Orientation: 35° (145°) Angle with Board; Current: 17.5A; Voltage: 300V; Wire Gauge: 12-30 AWG; Wire Termination: Screw - Rising Cage Clamp; Clamp Material - Plating: Brass - Nickel Plated; Torque - Screw: 0.79 Nm (7.0 Lb-In); Screw Thread: M3; Dynamic Catalog: Buchanan Series; Other Names: 10551201000 / A98099; TZOA PN: 410-00001; Supplier 1: Digikey; Stock 1: 144; Pricing 1: 400=5.22 (USD); RoHS Information: 1-282847-2 Statement of Compliance; Standard Package: 100; Category: Connectors, Interconnects; Family: Terminal Blocks - Wire to Board; Series: Buchanan; Mounting Type: Through Hole; Features: Interlocking (Side); Color: Green; Packaging: Bulk; Housing Material: Polyamide (PA66), Nylon 6/6; Contact Material - Plating: Brass - Tin Plated; Screw Material - Plating: Brass - Nickel Plated; ComponentLink1URL: https://datasheet.ciiva.com/9371/eng-cs-1308389-eurostyle-terminal-blocks-0607-9371930.pdf; ComponentLink1Description: https://datasheet.ciiva.com/9371/eng-cs-1308389-eurostyle-terminal-blocks-0607-9371930.pdf; ComponentLink2URL: https://datasheet.ciiva.com/823/eng-cd-282847-d3-823551.pdf; ComponentLink2Description: https://datasheet.ciiva.com/823/eng-cd-282847-d3-823551.pdf; Supplier Part Number 1: A98099-ND
footprint TE 282847-2 (2 Position Terminal Block)
pins: 1, 2

## TE_282847-4
designator J?
TB, TH, 4-Pos, 35Deg, 5.08mm; Manufacturer: TE Connectivity AMP Connectors; Number of Levels: 1; Positions Per Level: 4; Pitch: 0.200" (5.08mm); Mating Orientation: 35° (145°) Angle with Board; Current: 17.5A; Voltage: 300V; Wire Gauge: 12-30 AWG; Wire Termination: Screw - Rising Cage Clamp; Clamp Material - Plating: Brass - Nickel Plated; Torque - Screw: 0.79 Nm (7.0 Lb-In); Screw Thread: M3; Product Training Modules: Wire-to-Board Eurostyle Terminal Blocks; Featured Product: Eurostyle Terminal Block Connectors; 3D Model: 282847-4.pdf; Dynamic Catalog: Buchanan Series; Other Names: 10550401000 / 282847-4-ND / A98350; Supplier 1: Digi-Key; Supplier Part Number 1: A98350-ND; Manufacturer Part Number: 282847-4; RoHS: RoHS Compliant; Category: Connectors, Interconnects; Stock: 10469; Pricing: 1=3.09, 10=2.342, 25=2.1712, 50=1.9522, 100=1.9045, 250=1.66644, 500=1.52364, 1000=1.38079, 2500=1.23795 (CAD); Packaging: Bulk; Part Status: Active; Mounting Type: Through Hole; Features: Interlocking (Side); Color: Green; Operating Temperature: -; Housing Material: Polyamide (PA66), Nylon 6/6; Contact Material - Plating: Brass - Tin Plated; Screw Material - Plating: Brass - Nickel Plated; ComponentLink1URL: http://www.te.com/commerce/DocumentDelivery/DDEController?Action=srchrtrv&DocNm=282847&DocType=Customer+Drawing&DocLang=English; ComponentLink1Description: http://www.te.com/commerce/DocumentDelivery/DDEController?Action=srchrtrv&DocNm=282847&DocType=Customer+Drawing&DocLang=English; Supplier 2: Arrow; Stock 2: 565; Pricing 2: 1=1.3069, 10=1.1748, 25=1.1319, 50=1.1283, 100=1.1238, 250=1.1186, 500=1.1152, 1000=1.1115, 2500=1.1043 (USD); RoHS Information: 282847-4 Statement of Compliance; Standard Package: 150; Family: Terminal Blocks - Wire to Board; Series: Buchanan; ComponentLink2URL: https://datasheet.ciiva.com/823/eng-cd-282847-d3-823896.pdf; ComponentLink2Description: https://datasheet.ciiva.com/823/eng-cd-282847-d3-823896.pdf; ComponentLink3URL: https://datasheet.ciiva.com/3141/eng-cs-1308389-eurostyle-terminal-blocks-0607-3141595.pdf; ComponentLink3Description: https://datasheet.ciiva.com/3141/eng-cs-1308389-eurostyle-terminal-blocks-0607-3141595.pdf; ComponentLink4URL: https://datasheet.ciiva.com/16676/eng-cs-1308389-eurostyle-terminal-blocks-0607-16676091.pdf; ComponentLink4Description: https://datasheet.ciiva.com/16676/eng-cs-1308389-eurostyle-terminal-blocks-0607-16676091.pdf; ComponentLink5URL: https://datasheet.ciiva.com/30108/eng-cs-1308389-eurostyle-terminal-blocks-0607-30108747.pdf; ComponentLink5Description: https://datasheet.ciiva.com/30108/eng-cs-1308389-eurostyle-terminal-blocks-0607-30108747.pdf; Supplier Part Number 2: 282847-4
footprint TE 282847-4 (4 Position Terminal Block)
pins: 1, 2, 3, 4

## Teensy_Header
designator J?  (value not drawn)
footprint Teensy_Header
pins: 1 GND, 2 0, 3 1, 4 2, 5 3, 6 4, 7 5, 8 6, 9 7, 10 8, 11 9, 12 10, 13 11, 14 12, 15 VBAT, 16 3V3, 17 GND, 18 Program, 19 A14, 20 13, 21 14, 22 15, 23 16, 24 17, 25 18, 26 19, 27 20, 28 21, 29 22, 30 23, 31 3V3, 32 AGND, 33 VIN, 34 VUSB, 35 AREF, 36 A10, 37 A11

## Teensy_Header_Mini
designator J?  (value not drawn)
footprint Teensy_Header2
pins: 1 GND, 2 0, 3 1, 4 2, 5 3, 6 4, 7 5, 8 6, 9 7, 10 8, 11 9, 12 10, 13 11, 14 12, 15 VBAT, 16 3V3, 17 GND, 18 Program, 19 A14, 20 13, 21 14, 22 15, 23 16, 24 17, 25 18, 26 19, 27 20, 28 21, 29 22, 30 23, 31 3V3, 32 AGND, 33 VIN

## Terminal _Phoenix_1823638_2
designator J?, comment Phoenix Contact 1823638
Two Positions Terminal Block,; Number of Levels: 1; Positions Per Level: 2; Pitch: 0.138" (3.50mm); Mating Orientation: Horizontal with Board; Current: 10A; Voltage: 300V; Wire Gauge: 16-24 AWG; Wire Termination: Screwless - Leg Spring, Push-In Spring; Supplier 1: Digikey; Manufacturer: Phoenix Contact; Manufacturer Part Number: 1823638; Stock 1: 532; Pricing 1: 1=1.75, 10=1.679, 50=1.606, 100=1.5622 (USD); Category: Connectors, Interconnects; Family: Terminal Blocks - Wire to Board; Series: COMBICON SPT-THR; Packaging: Tape & Reel (TR); Mounting Type: Through Hole; Features: -; Color: Black; Operating Temperature: -; Housing Material: Liquid Crystal Polymer (LCP); Contact Material - Plating: Tin Plated; Clamp Material - Plating: -; Screw Material - Plating: -; Torque - Screw: -; Screw Thread: -; Supplier Part Number 1: 277-11658-1-ND
footprint Terminal_1823638-2 (2 Position Terminal Block)
pins: 1 (power), 2 (power), 3 (power), 4 (power)

## Terminal Block 5POS 3.81mm 1707667
designator J?, comment 5POS Terminal Block  (value not drawn)
Manufacturer: Phoenix Contact; Manufacturer Part Number: 1707667; Part # Aliases: MCV_1,5/_5-GF-3,81_P26_THR MCV155GF381P26THR; Current Rating: 8 A; Number of Positions / Contacts: 5; Pitch: 3.81 mm; Voltage Rating: 160 V; Supplier 1: Digi-Key; Stock 1: 96; Pricing 1: 1=4.25, 10=4.13, 50=3.86, 100=3.5512, 250=3.281, 500=3.1266, 1000=2.9336 (USD); Brand: Phoenix Contact; Contact Plating: Tin; Mounting Style: Through Hole; Factory Pack Quantity: 50; Product Category: Pluggable Terminal Blocks; RoHS: Details; Series: MCV; Product: Headers; Number of Positions: 5; Type: Header; Termination Style: Through Hole; Tradename: COMBICON Control; ComponentLink1URL: //media.digikey.com/pdf/Data%20Sheets/Phoenix%20Contact%20PDFs/1707667.pdf; ComponentLink1Description: //media.digikey.com/pdf/Data%20Sheets/Phoenix%20Contact%20PDFs/1707667.pdf; ComponentLink2URL: https://www.verical.com/server-webapp/html/getDatasheet?partID=225466; ComponentLink2Description: https://www.verical.com/server-webapp/html/getDatasheet?partID=225466; Supplier Part Number 1: 277-8581-ND
footprint Phoenix Contact 1707667 (5 Position Terminal Block)
pins: 1, 2, 3, 4, 5

## Terminal Block 5POS 1955662
designator J?, comment 5POS Terminal Block  (value not drawn)
Manufacturer: Phoenix Contact; Manufacturer Part Number: 1955662; Part # Aliases: CCV_2,5/_5-GF-5,08_P26THR CCV255GF508P26THR; Number of Positions / Contacts: 5; Pitch: 5.08 mm; Current Rating: 12 A; Voltage Rating: 250 V; Unit Weight: 5.326368 oz; Supplier 1: Digi-Key; Stock 1: 60; Pricing 1: 1=4.51, 10=4.387, 50=4.1, 100=3.772, 250=3.485, 500=3.321, 1000=3.116 (USD); Mounting Style: Through Hole; Type: Wire to Board; Product Category: Pluggable Terminal Blocks; RoHS: Details; Brand: Phoenix Contact; Series: CCV; Product: Headers; Number of Positions: 5; Termination Style: Through Hole; Contact Plating: Tin; Factory Pack Quantity: 50; Tradename: COMBICON Control; Supplier Part Number 1: 277-14463-ND
footprint Phoenix Contact 1955662 (5 Position Terminal Block)
pins: 1, 2, 3, 4, 5

## Terminal Block 1933341
designator J?  (value not drawn)
Four Position Terminal Block; Manufacturer: Phoenix Contact; Manufacturer Part Number: 1933341; Number of Levels: 1; Positions Per Level: 4; Pitch: 0.197" (5.00mm); Mating Orientation: Horizontal with Board; Current: 10A; Voltage: 300V; Wire Gauge: 12-30 AWG; Wire Termination: Screw - Rising Cage Clamp; Torque - Screw: 0.5-0.6 Nm (4.4-5.3 Lb-In); Screw Thread: M3; ID: 13496596; Supplier 1: Digi-Key; RoHS: RoHS Compliant; Category: Connectors, Interconnects; Stock 1: 59; Pricing 1: 1=3.12, 10=3.033, 50=2.8344, 100=2.6076, 250=2.40928, 500=2.29588, 1000=2.11192 (CAD); Packaging: Bulk; Mounting Type: Through Hole; Features: Interlocking (Side), Positions Stamped; Color: Green; Operating Temperature: -; Housing Material: Polyamide (PA), Nylon; Contact Material - Plating: -; Clamp Material - Plating: -; Screw Material - Plating: -; ComponentLink1URL: http://media.digikey.com/PDF/Data%20Sheets/Phoenix%20Contact%20PDFs/1933341.pdf; ComponentLink1Description: http://media.digikey.com/PDF/Data%20Sheets/Phoenix%20Contact%20PDFs/1933341.pdf; Supplier 2: Arrow; Stock 2: 50; Pricing 2: 1=1.574, 10=1.531, 50=1.474, 100=1.443, 250=1.414, 500=1.392, 1000=1.383 (USD); Package Quantity: 1; ComponentLink2URL: https://www.arrow.com/en/products/1933341/phoenix-contact/; ComponentLink2Description: https://www.arrow.com/en/products/1933341/phoenix-contact/; Supplier Part Number 1: 277-1981-ND; Supplier Part Number 2: 0x92KeQJAC76kpT2_BECs4aGHXXAox9jIp0pDKjtJoY
footprint 1933341
pins: 1 A, 2 B, 3 C, 4 D

## Terminal Block 1985865
designator J?  (value not drawn)
Two Position Terminal Block; Manufacturer: Phoenix Contact; Manufacturer Part Number: 1985865; Number of Levels: 1; Positions Per Level: 2; Pitch: 0.200" (5.08mm); Mating Orientation: Horizontal with Board; Current: 10A; Voltage: 300V; Wire Gauge: 14-30 AWG; Wire Termination: Screw - Rising Cage Clamp; Torque - Screw: 0.5-0.6 Nm (4.4-5.3 Lb-In); Screw Thread: M3; ID: 1751957; Supplier 1: Digi-Key; RoHS: RoHS Compliant; Category: Connectors, Interconnects; Stock 1: 1100; Pricing 1: 1=1.27, 10=1.237, 50=1.1566, 100=1.0641, 250=0.98316, 500=0.9369, 1000=0.87907 (CAD); Packaging: Bulk; Mounting Type: Through Hole; Features: Interlocking (Side); Color: Black; Operating Temperature: -; Housing Material: Polyamide (PA), Nylon; Contact Material - Plating: -; Clamp Material - Plating: -; Screw Material - Plating: -; ComponentLink1URL: http://media.digikey.com/pdf/Data%20Sheets/Phoenix%20Contact%20PDFs/Multi-Postion%20PCTerminal%20Blocks.pdf; ComponentLink1Description: http://media.digikey.com/pdf/Data%20Sheets/Phoenix%20Contact%20PDFs/Multi-Postion%20PCTerminal%20Blocks.pdf; Supplier 2: Arrow; Stock 2: 50; Pricing 2: 1=0.6508, 10=0.6366, 25=0.626, 50=0.6057 (USD); Package Quantity: 1; ComponentLink2URL: https://www.arrow.com/en/products/1985865/phoenix-contact/; ComponentLink2Description: https://www.arrow.com/en/products/1985865/phoenix-contact/; Supplier Part Number 1: 277-6270-ND; Supplier Part Number 2: v15PLMyEweGEzKmF_e7eTouptO1wZJU8_jYBOaUN-GI
footprint Terminal Block 1985865 (Phoenic Contact Terminal Block)
pins: 1 + (power), 2 - (power)